# EAGLE library part FTDI-PINHEADER (library FTDI-PINHEADER)
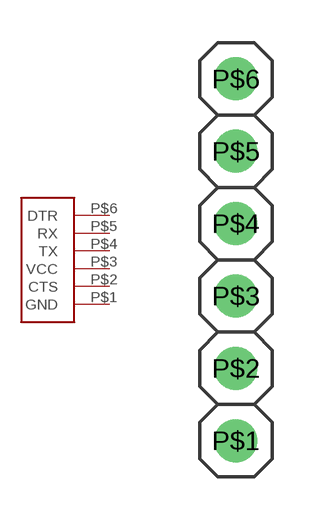
[diagram p0: symbol with the pads of FTDI-PINHEADER; footprint FTDI-PINHEADER]

Designator prefix -

## FTDI-PINHEADER  [FTDI-PINHEADER]
P$1  GND
P$2  CTS
P$3  VCC
P$4  TX
P$5  RX
P$6  DTR

## Footprint FTDI-PINHEADER (pad centres in mm)
drill 1: P$1 0,-6.35; P$2 0,-3.81; P$3 0,-1.27; P$4 0,1.27; P$5 0,3.81; P$6 0,6.35